# EAGLE library part FT4232H (library ds_ic_peripherals)
FT4232H Quad High-Speed USB to Multi-Purpose UART/MPSSE IC
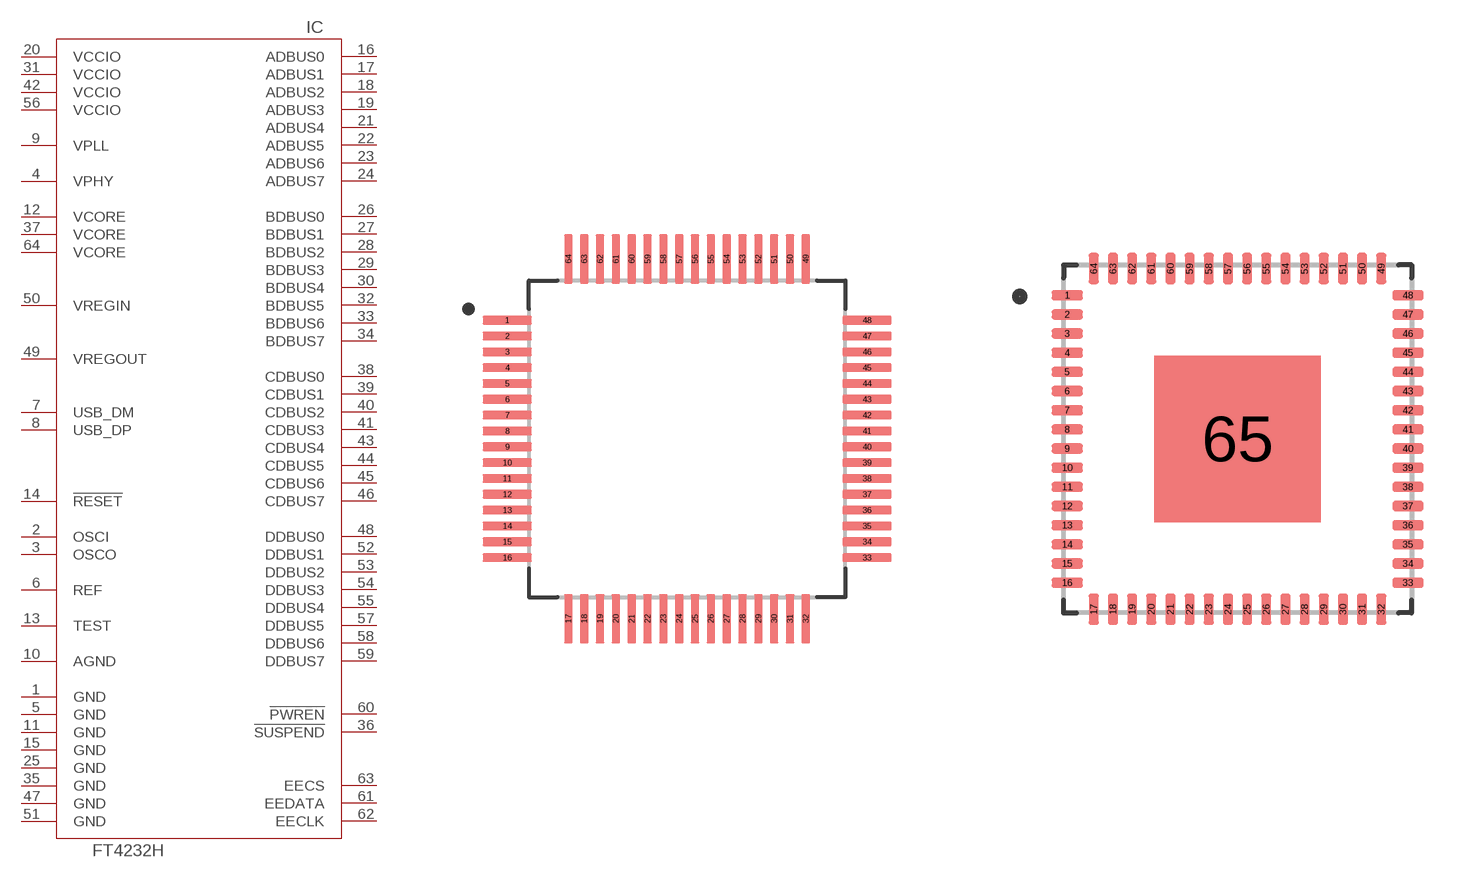
[diagram p54: symbol with the pads of LQFP64-10X10; footprints LQFP64-10X10, QFN64-9X9]

Designator prefix IC

## FT4232HL (DATASHEET: https://ftdichip.com/wp-content/uploads/2024/05/DS_FT4232H.pdf; DESCRIPTION: USB to UART UART LQFP-64(10x10) USB Converters ROHS; LCSC_PART: C56742; VALUE: FT4232HL)  [LQFP64-10X10]
1  GND  pwr
2  OSCI  in
3  OSCO  out
4  VPHY  pwr
5  GND  pwr
6  REF  in
7  USB_DM
8  USB_DP
9  VPLL  pwr
10  AGND  pwr
11  GND  pwr
12  VCORE  pwr
13  TEST  in
14  !RESET  in
15  GND  pwr
16  ADBUS0
17  ADBUS1
18  ADBUS2
19  ADBUS3
20  VCCIO  pwr
21  ADBUS4
22  ADBUS5
23  ADBUS6
24  ADBUS7
25  GND  pwr
26  BDBUS0
27  BDBUS1
28  BDBUS2
29  BDBUS3
30  BDBUS4
31  VCCIO  pwr
32  BDBUS5
33  BDBUS6
34  BDBUS7
35  GND  pwr
36  !SUSPEND  out
37  VCORE  pwr
38  CDBUS0
39  CDBUS1
40  CDBUS2
41  CDBUS3
42  VCCIO  pwr
43  CDBUS4
44  CDBUS5
45  CDBUS6
46  CDBUS7
47  GND  pwr
48  DDBUS0
49  VREGOUT  pwr
50  VREGIN  pwr
51  GND  pwr
52  DDBUS1
53  DDBUS2
54  DDBUS3
55  DDBUS4
56  VCCIO  pwr
57  DDBUS5
58  DDBUS6
59  DDBUS7
60  !PWREN  out
61  EEDATA
62  EECLK  out
63  EECS
64  VCORE  pwr

## FT4232HQ (DATASHEET: https://ftdichip.com/wp-content/uploads/2024/05/DS_FT4232H.pdf; DESCRIPTION: USB to UART UART QFN-64-EP(9x9) USB Converters ROHS; LCSC_PART: C2651882; VALUE: FT4232HQ)  [QFN64-9X9]
1  GND  pwr
2  OSCI  in
3  OSCO  out
4  VPHY  pwr
5  GND  pwr
6  REF  in
7  USB_DM
8  USB_DP
9  VPLL  pwr
10  AGND  pwr
11  GND  pwr
12  VCORE  pwr
13  TEST  in
14  !RESET  in
15  GND  pwr
16  ADBUS0
17  ADBUS1
18  ADBUS2
19  ADBUS3
20  VCCIO  pwr
21  ADBUS4
22  ADBUS5
23  ADBUS6
24  ADBUS7
25  GND  pwr
26  BDBUS0
27  BDBUS1
28  BDBUS2
29  BDBUS3
30  BDBUS4
31  VCCIO  pwr
32  BDBUS5
33  BDBUS6
34  BDBUS7
35  GND  pwr
36  !SUSPEND  out
37  VCORE  pwr
38  CDBUS0
39  CDBUS1
40  CDBUS2
41  CDBUS3
42  VCCIO  pwr
43  CDBUS4
44  CDBUS5
45  CDBUS6
46  CDBUS7
47  GND  pwr
48  DDBUS0
49  VREGOUT  pwr
50  VREGIN  pwr
51  GND  pwr
52  DDBUS1
53  DDBUS2
54  DDBUS3
55  DDBUS4
56  VCCIO  pwr
57  DDBUS5
58  DDBUS6
59  DDBUS7
60  !PWREN  out
61  EEDATA
62  EECLK  out
63  EECS
64  VCORE  pwr
65  GND  pwr

## Footprint LQFP64-10X10 (pad centres in mm)
smd 1.56 x 0.28: 1 -5.68,3.75; 2 -5.68,3.25; 3 -5.68,2.75; 4 -5.68,2.25; 5 -5.68,1.75; 6 -5.68,1.25; 7 -5.68,0.75; 8 -5.68,0.25; 9 -5.68,-0.25; 10 -5.68,-0.75; 11 -5.68,-1.25; 12 -5.68,-1.75; 13 -5.68,-2.25; 14 -5.68,-2.75; 15 -5.68,-3.25; 16 -5.68,-3.75; 33 5.68,-3.75; 34 5.68,-3.25; 35 5.68,-2.75; 36 5.68,-2.25; 37 5.68,-1.75; 38 5.68,-1.25; 39 5.68,-0.75; 40 5.68,-0.25; 41 5.68,0.25; 42 5.68,0.75; 43 5.68,1.25; 44 5.68,1.75; 45 5.68,2.25; 46 5.68,2.75; 47 5.68,3.25; 48 5.68,3.75
smd 0.28 x 1.56: 17 -3.75,-5.68; 18 -3.25,-5.68; 19 -2.75,-5.68; 20 -2.25,-5.68; 21 -1.75,-5.68; 22 -1.25,-5.68; 23 -0.75,-5.68; 24 -0.25,-5.68; 25 0.25,-5.68; 26 0.75,-5.68; 27 1.25,-5.68; 28 1.75,-5.68; 29 2.25,-5.68; 30 2.75,-5.68; 31 3.25,-5.68; 32 3.75,-5.68; 49 3.75,5.68; 50 3.25,5.68; 51 2.75,5.68; 52 2.25,5.68; 53 1.75,5.68; 54 1.25,5.68; 55 0.75,5.68; 56 0.25,5.68; 57 -0.25,5.68; 58 -0.75,5.68; 59 -1.25,5.68; 60 -1.75,5.68; 61 -2.25,5.68; 62 -2.75,5.68; 63 -3.25,5.68; 64 -3.75,5.68

## Footprint QFN64-9X9 (pad centres in mm)
smd 0.82 x 0.27: 1 -4.445,3.75; 2 -4.445,3.25; 3 -4.445,2.75; 4 -4.445,2.25; 5 -4.445,1.75; 6 -4.445,1.25; 7 -4.445,0.75; 8 -4.445,0.25; 9 -4.445,-0.25; 10 -4.445,-0.75; 11 -4.445,-1.25; 12 -4.445,-1.75; 13 -4.445,-2.25; 14 -4.445,-2.75; 15 -4.445,-3.25; 16 -4.445,-3.75; 33 4.445,-3.75; 34 4.445,-3.25; 35 4.445,-2.75; 36 4.445,-2.25; 37 4.445,-1.75; 38 4.445,-1.25; 39 4.445,-0.75; 40 4.445,-0.25; 41 4.445,0.25; 42 4.445,0.75; 43 4.445,1.25; 44 4.445,1.75; 45 4.445,2.25; 46 4.445,2.75; 47 4.445,3.25; 48 4.445,3.75
smd 0.27 x 0.82: 17 -3.75,-4.445; 18 -3.25,-4.445; 19 -2.75,-4.445; 20 -2.25,-4.445; 21 -1.75,-4.445; 22 -1.25,-4.445; 23 -0.75,-4.445; 24 -0.25,-4.445; 25 0.25,-4.445; 26 0.75,-4.445; 27 1.25,-4.445; 28 1.75,-4.445; 29 2.25,-4.445; 30 2.75,-4.445; 31 3.25,-4.445; 32 3.75,-4.445; 49 3.75,4.445; 50 3.25,4.445; 51 2.75,4.445; 52 2.25,4.445; 53 1.75,4.445; 54 1.25,4.445; 55 0.75,4.445; 56 0.25,4.445; 57 -0.25,4.445; 58 -0.75,4.445; 59 -1.25,4.445; 60 -1.75,4.445; 61 -2.25,4.445; 62 -2.75,4.445; 63 -3.25,4.445; 64 -3.75,4.445
smd 4.35 x 4.35: 65 0,0